# Altium schematic symbol library Microcontrollers.SchLib: 11 symbols
Pins are listed as number, name and electrical type; pins without a type are passive.

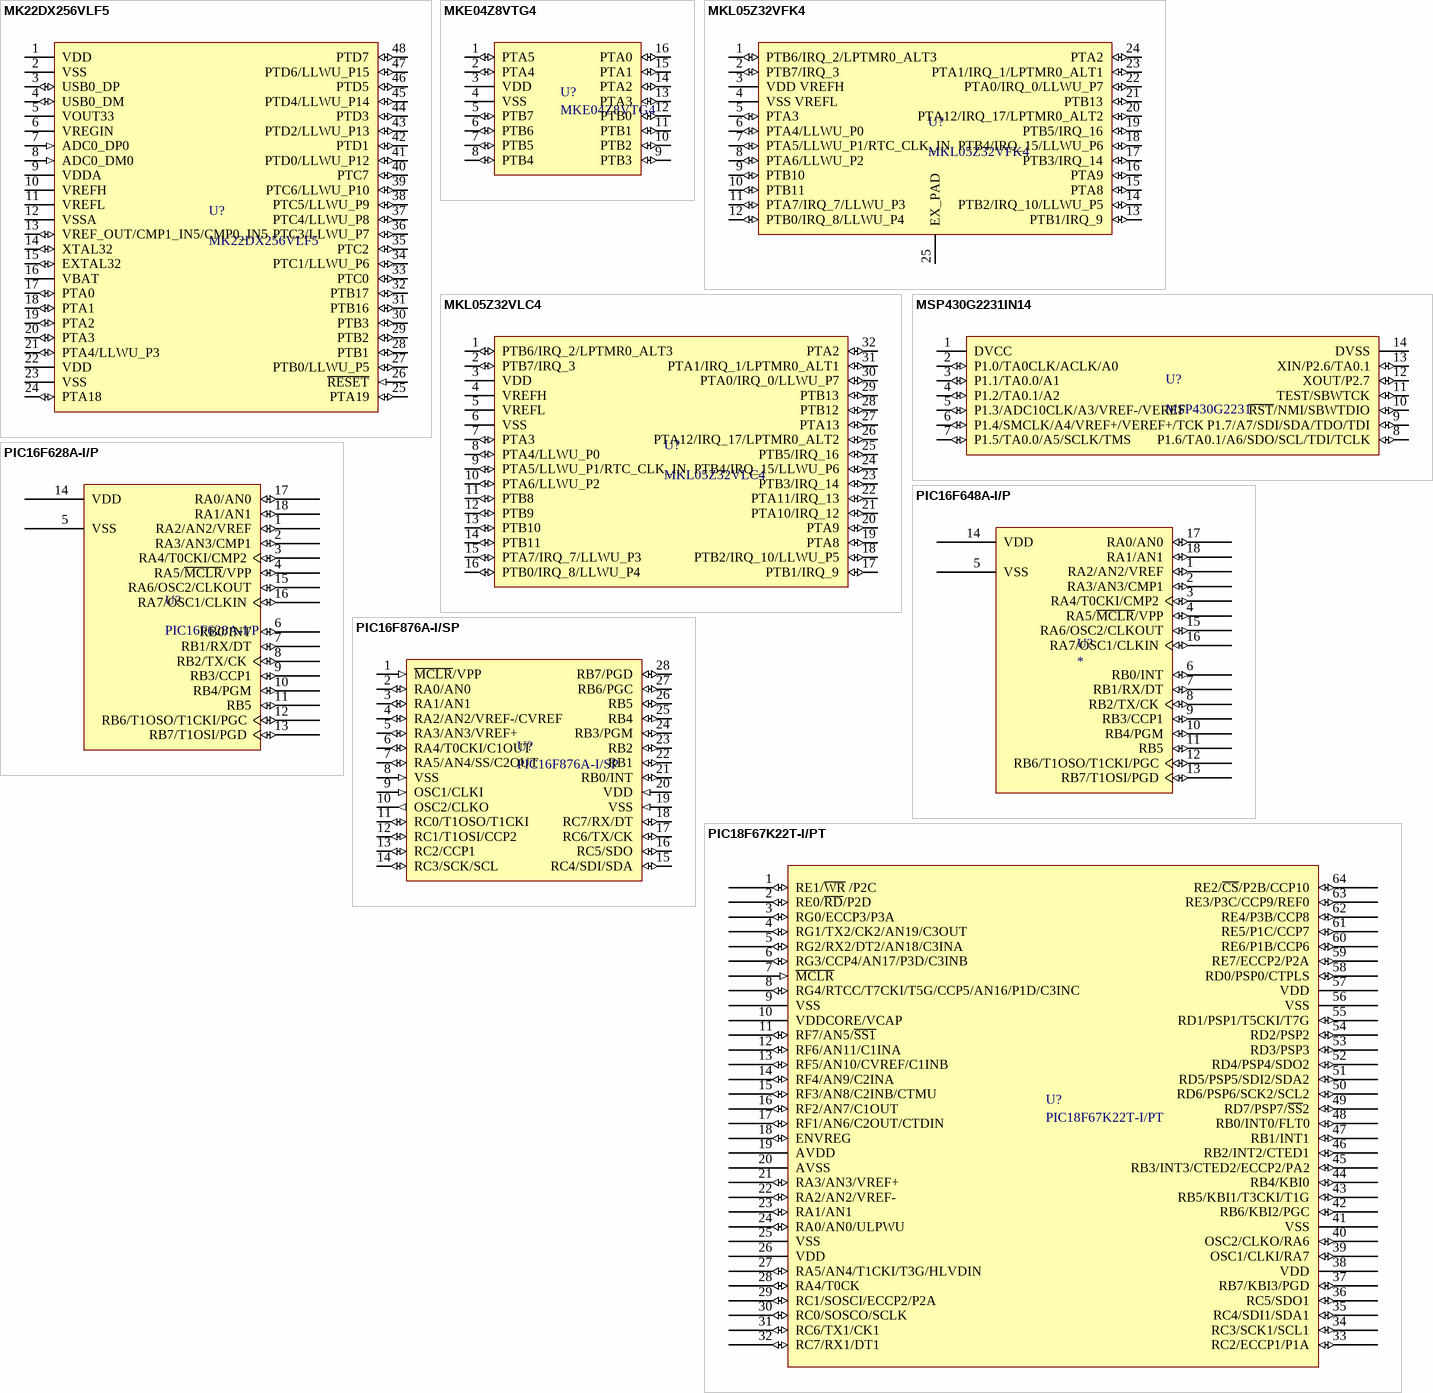
[diagram p0: symbols MK22DX256VLF5 to PIC18F67K22T-I/PT]

## MK22DX256VLF5
designator U?
ARM Microcontrollers - MCU ARM+256Kb +USB; Manufacturer: Freescale Semiconductor; Supplier 1: Mouser; Manufacturer Part Number: MK22DX256VLF5; RoHS: RoHS Compliant; Category: ARM Microcontrollers - MCU; Stock 1: 0; Pricing 1: 1=4.44, 10=4.19, 25=3.95, 100=2.47 (EUR); Packaging: Tray; Series: K22_50; Brand: Freescale Semiconductor; Standard Pack Qty: 250; Tradename: Kinetis; RoHS - Mouser: Y; Minimum Order Quantity: 1; Reeling: False; ComponentLink1URL: http://cache.freescale.com/files/32bit/doc/data_sheet/K22P48M50SF4.pdf; ComponentLink1Description: http://cache.freescale.com/files/32bit/doc/data_sheet/K22P48M50SF4.pdf
footprint LQFP48-7x7x1.4-0.50 (LQFP 48 pins, 7x7x1.4mm body, 0.50 pitch)
pins: 1 VDD (power), 2 VSS (power), 3 USB0_DP (io), 4 USB0_DM (io), 5 VOUT33 (power), 6 VREGIN (power), 7 ADC0_DP0 (in), 8 ADC0_DM0 (in), 9 VDDA (power), 10 VREFH (power), 11 VREFL (power), 12 VSSA (power), 13 VREF_OUT/CMP1_IN5/CMP0_IN5 (io), 14 XTAL32 (io), 15 EXTAL32 (io), 16 VBAT (power), 17 PTA0 (io), 18 PTA1 (io), 19 PTA2 (io), 20 PTA3 (io), 21 PTA4/LLWU_P3 (io), 22 VDD (power), 23 VSS (power), 24 PTA18 (io), 25 PTA19 (io), 26 ~{RESET} (in), 27 PTB0/LLWU_P5 (io), 28 PTB1 (io), 29 PTB2 (io), 30 PTB3 (io), 31 PTB16 (io), 32 PTB17 (io), 33 PTC0 (io), 34 PTC1/LLWU_P6 (io), 35 PTC2 (io), 36 PTC3/LLWU_P7 (io), 37 PTC4/LLWU_P8 (io), 38 PTC5/LLWU_P9 (io), 39 PTC6/LLWU_P10 (io), 40 PTC7 (io), 41 PTD0/LLWU_P12 (io), 42 PTD1 (io), 43 PTD2/LLWU_P13 (io), 44 PTD3 (io), 45 PTD4/LLWU_P14 (io), 46 PTD5 (io), 47 PTD6/LLWU_P15 (io), 48 PTD7 (io)

## MKE04Z8VTG4
designator U?
ARM Microcontrollers - MCU M0 + 8K FLASH 48MHZ; Manufacturer: Freescale Semiconductor; A/D Bit Size: 12 bit; A/D Channels Available: 12; Data RAM Size: 1 kB; Data RAM Type: RAM; Interface Type: I2C, SPI, UART; Number of I/Os: 22 I/O; Program Memory Size: 8 kB; Core: ARM Cortex M0; Data Bus Width: 32 bit; Number of Timers: 5 Timer; On-Chip DAC: Without DAC; Operating Supply Voltage: 2.7 V to 5.5 V; Product Status: New at Mouser; Supplier 1: Mouser; Manufacturer Part Number: MKE04Z8VTG4; RoHS: RoHS Compliant; Category: ARM Microcontrollers - MCU; Stock 1: 384; Pricing 1: 1=0.780, 10=0.743, 25=0.701, 100=0.481 (EUR); Package/Case: TSSOP-16; Program Memory Type: Flash; Brand: Freescale Semiconductor; Mounting Style: SMD/SMT; Maximum Clock Frequency: 48 MHz; Maximum Operating Temperature: + 105 C; Minimum Operating Temperature: - 40 C; Standard Pack Qty: 96; RoHS - Mouser: Y; Minimum Order Quantity: 1; Reeling: False; ComponentLink1URL: http://cache.freescale.com/webapp/sps/site/prod_summary.jsp?code=KE04&tab=Documentation_Tab&Type=Data+Sheets; ComponentLink1Description: http://cache.freescale.com/webapp/sps/site/prod_summary.jsp?code=KE04&tab=Documentation_Tab&Type=Data+Sheets
footprint TSSOP16 (TSSOP 16 Pin)
pins: 1 PTA5 (io), 2 PTA4 (io), 3 VDD (power), 4 VSS (power), 5 PTB7 (io), 6 PTB6 (io), 7 PTB5 (io), 8 PTB4 (io), 9 PTB3 (io), 10 PTB2 (io), 11 PTB1 (io), 12 PTB0 (io), 13 PTA3 (io), 14 PTA2 (io), 15 PTA1 (io), 16 PTA0 (io)

## MKL05Z32VFK4
designator U?
ARM Microcontrollers - MCU Kinetis L ARM M0+ 32k Flash; Manufacturer: Freescale Semiconductor; Data RAM Size: 4 kB; Program Memory Size: 32 kB; Core: ARM Cortex M0; Data Bus Width: 32 bit; Maximum Clock Frequency: 48 MHz; On-Chip ADC: Yes; Operating Supply Voltage: 1.71 V to 3.6 V; Product Status: New at Mouser; Supplier 1: Mouser; Manufacturer Part Number: MKL05Z32VFK4; RoHS: RoHS Compliant; Category: ARM Microcontrollers - MCU; Stock 1: 435; Pricing 1: 1=1.52, 10=1.43, 25=1.35, 100=0.848 (EUR); Package/Case: QFN-24; Packaging: Tray; Series: KL0; Brand: Freescale Semiconductor; Mounting Style: SMD/SMT; Maximum Operating Temperature: + 105 C; Minimum Operating Temperature: - 40 C; Processor Series: Kinetis L; Standard Pack Qty: 490; Tradename: Kinetis; RoHS - Mouser: Y; Minimum Order Quantity: 1; Reeling: False; ComponentLink1URL: http://cache.freescale.com/files/32bit/doc/data_sheet/KL05P48M48SF1.pdf; ComponentLink1Description: http://cache.freescale.com/files/32bit/doc/data_sheet/KL05P48M48SF1.pdf
footprint QFN24-4x4x0.9-0.50 (QFN 24 Pin, 4x4x0.9mm, 0.50 Pitch)
pins: 1 PTB6/IRQ_2/LPTMR0_ALT3 (io), 2 PTB7/IRQ_3 (io), 3 VDD VREFH (power), 4 VSS VREFL (power), 5 PTA3 (io), 6 PTA4/LLWU_P0 (io), 7 PTA5/LLWU_P1/RTC_CLK_IN (io), 8 PTA6/LLWU_P2 (io), 9 PTB10 (io), 10 PTB11 (io), 11 PTA7/IRQ_7/LLWU_P3 (io), 12 PTB0/IRQ_8/LLWU_P4 (io), 13 PTB1/IRQ_9 (io), 14 PTB2/IRQ_10/LLWU_P5 (io), 15 PTA8 (io), 16 PTA9 (io), 17 PTB3/IRQ_14 (io), 18 PTB4/IRQ_15/LLWU_P6 (io), 19 PTB5/IRQ_16 (io), 20 PTA12/IRQ_17/LPTMR0_ALT2 (io), 21 PTB13 (io), 22 PTA0/IRQ_0/LLWU_P7 (io), 23 PTA1/IRQ_1/LPTMR0_ALT1 (io), 24 PTA2 (io), 25 EX_PAD (power)

## MKL05Z32VLC4
designator U?
ARM Microcontrollers - MCU ARM M0+core,32KFlash; Manufacturer: Freescale Semiconductor; Program Memory Type: Flash; Data RAM Size: 4 kB; Data Ram Type: RAM; Interface Type: I2C, LPUART, SPI; Program Memory Size: 32 kB; Core: ARM Cortex M0; Data Bus Width: 32 bit; Maximum Clock Frequency: 48 MHz; Number of Programmable I/Os: 28; Number of Timers: 2; On-Chip DAC: Yes; Operating Supply Voltage: 1.7 V to 3.6 V; Product Status: New Technology; Supplier 1: Mouser; Manufacturer Part Number: MKL05Z32VLC4; RoHS: RoHS Compliant; Category: ARM Microcontrollers - MCU; Stock 1: 1256; Pricing 1: 1=1.59, 10=1.50, 25=1.42, 100=0.888 (EUR); Package/Case: LQFP-32; Packaging: Tray; Series: KL0; Brand: Freescale Semiconductor; Mounting Style: SMD/SMT; Maximum Operating Temperature: + 105 C; Minimum Operating Temperature: - 40 C; Processor Series: ARM; Standard Pack Qty: 250; Tradename: Kinetis; RoHS - Mouser: Y; Minimum Order Quantity: 1; Reeling: False; ComponentLink1URL: http://cache.freescale.com/files/32bit/doc/data_sheet/KL05P48M48SF1.pdf; ComponentLink1Description: http://cache.freescale.com/files/32bit/doc/data_sheet/KL05P48M48SF1.pdf
footprint LQFP32-7x7x1.4-0.8 (LQFP 32 pins, 7x7x1.4mm body, 0.80 pitch)
pins: 1 PTB6/IRQ_2/LPTMR0_ALT3 (io), 2 PTB7/IRQ_3 (io), 3 VDD (power), 4 VREFH (power), 5 VREFL (power), 6 VSS (power), 7 PTA3 (io), 8 PTA4/LLWU_P0 (io), 9 PTA5/LLWU_P1/RTC_CLK_IN (io), 10 PTA6/LLWU_P2 (io), 11 PTB8 (io), 12 PTB9 (io), 13 PTB10 (io), 14 PTB11 (io), 15 PTA7/IRQ_7/LLWU_P3 (io), 16 PTB0/IRQ_8/LLWU_P4 (io), 17 PTB1/IRQ_9 (io), 18 PTB2/IRQ_10/LLWU_P5 (io), 19 PTA8 (io), 20 PTA9 (io), 21 PTA10/IRQ_12 (io), 22 PTA11/IRQ_13 (io), 23 PTB3/IRQ_14 (io), 24 PTB4/IRQ_15/LLWU_P6 (io), 25 PTB5/IRQ_16 (io), 26 PTA12/IRQ_17/LPTMR0_ALT2 (io), 27 PTA13 (io), 28 PTB12 (io), 29 PTB13 (io), 30 PTA0/IRQ_0/LLWU_P7 (io), 31 PTA1/IRQ_1/LPTMR0_ALT1 (io), 32 PTA2 (io)

## MSP430G2231IN14
designator U?, comment MSP430G2231
16-bit Microcontrollers - MCU Ultra low power Microcontroller; Manufacturer: Texas Instruments; Manufacturer Part Number: MSP430G2231IN14; Program Memory Type: Flash; Data RAM Size: 128 B; Data RAM Type: SRAM; Interface Type: I2C, SPI; Program Memory Size: 2 kB; Core: MSP430; Data Bus Width: 16 bit; Maximum Clock Frequency: 16 MHz; Number of Programmable I/Os: 10; Number of Timers: 1; On-Chip ADC: Yes; Operating Supply Voltage: 1.8 V to 3.6 V; Processor Series: 2 Series; Product Status: New Technology; Supplier 1: Mouser; RoHS: RoHS Compliant; Category: 16-bit Microcontrollers - MCU; Stock 1: 105; Pricing 1: 1=2.96, 10=2.36, 100=1.89, 500=1.50, 1000=1.36, 2500=1.25, 5000=1.23, 10000=1.18 (AUD); Package / Case: PDIP-14; Packaging: Tube; Series: MSP430G2231; Brand: Texas Instruments; Mounting Style: Through Hole; Maximum Operating Temperature: + 85 C; Minimum Operating Temperature: - 40 C; Product Category: Microcontrollers - MSP430 Series; Standard Pack Qty: 25; Tradename: MSP430; RoHS - Mouser: Y; Minimum Order Quantity: 1; Reeling: False; ComponentLink1URL: http://www.ti.com/litv/slas694j; ComponentLink1Description: http://www.ti.com/litv/slas694j
footprint PDIP14-300
pins: 1 DVCC (power), 2 P1.0/TA0CLK/ACLK/A0 (io), 3 P1.1/TA0.0/A1 (io), 4 P1.2/TA0.1/A2 (io), 5 P1.3/ADC10CLK/A3/VREF-/VEREF (io), 6 P1.4/SMCLK/A4/VREF+/VEREF+/TCK (io), 7 P1.5/TA0.0/A5/SCLK/TMS (io), 8 P1.6/TA0.1/A6/SDO/SCL/TDI/TCLK (io), 9 P1.7/A7/SDI/SDA/TDO/TDI (io), 10 ~{RST}/NMI/SBWTDIO (io), 11 TEST/SBWTCK (io), 12 XOUT/P2.7 (io), 13 XIN/P2.6/TA0.1 (io), 14 DVSS (power)

## PIC16F628A-I/P
designator U?
8-bit Microcontrollers - MCU 3.5KB 224 RAM 16 I/O; Manufacturer: Microchip Technology; Program Memory Type: Flash; A/D Bit Size: No ADC; Data RAM Size: 224 B; Data ROM Size: 128 B; Interface Type: SCI, USART; Number of I/Os: 16 I/O; Core: PIC; Data Bus Width: 8 bit; Maximum Clock Frequency: 20 MHz; Number of Timers: 3 Timer; On-Chip ADC: No; Operating Supply Voltage: 2 V to 5.5 V; Processor Series: PIC16; Supply Voltage - Max: 5.5 V; Supply Voltage - Min: 3 V; Supplier 1: Mouser; Manufacturer Part Number: PIC16F628A-I/P; RoHS: RoHS Compliant; Category: 8-bit Microcontrollers - MCU; Stock 1: 7871; Pricing 1: 1=2.81, 10=2.34, 25=2.25, 100=2.17 (AUD); Package / Case: PDIP-18; Packaging: Tube; Series: PIC16; Brand: Microchip Technology; Data ROM Type: Flash; Mounting Style: Through Hole; Program Memory Size: 3.5 kB; Maximum Operating Temperature: + 85 C; Minimum Operating Temperature: - 40 C; Product Category: PICmicro MCUs; Standard Pack Qty: 25; RoHS - Mouser: Y; Minimum Order Quantity: 1; Reeling: False; ComponentLink1URL: http://www.mouser.com/ds/2/268/40044b-81137.pdf; ComponentLink1Description: http://www.mouser.com/ds/2/268/40044b-81137.pdf
footprint PDIP18-300
pins: 1 RA2/AN2/VREF (io), 2 RA3/AN3/CMP1 (io), 3 RA4/T0CKI/CMP2 (io), 4 RA5/~{MCLR}/VPP (io), 5 VSS (power), 6 RB0/INT (io), 7 RB1/RX/DT (io), 8 RB2/TX/CK (io), 9 RB3/CCP1 (io), 10 RB4/PGM (io), 11 RB5 (io), 12 RB6/T1OSO/T1CKI/PGC (io), 13 RB7/T1OSI/PGD (io), 14 VDD (power), 15 RA6/OSC2/CLKOUT (io), 16 RA7/OSC1/CLKIN (io), 17 RA0/AN0 (io), 18 RA1/AN1 (io)

## PIC16F648A-I/P
designator U?
8-bit Microcontrollers - MCU 7KB 256 RAM 16 I/O; Manufacturer: Microchip Technology; Manufacturer Part Number: PIC16F648A-I/P; Program Memory Type: Flash; Data RAM Size: 256 B; Interface Type: SCI, USART; Program Memory Size: 4 KB; Core: PIC; Data Bus Width: 8 bit; Maximum Clock Frequency: 20 MHz; Number of Programmable I/Os: 16; Number of Timers: 3; On-Chip ADC: No; Operating Supply Voltage: 2 V to 5.5 V; Processor Series: PIC16; Supply Voltage - Max: 5.5 V; Supply Voltage - Min: 3 V; Supplier 1: Mouser; RoHS: RoHS Compliant; Category: 8-bit Microcontrollers - MCU; Stock 1: 3117; Pricing 1: 1=1.89, 10=1.58, 25=1.52, 100=1.46 (EUR); Package/Case: PDIP-18; Packaging: Tube; Series: PIC16; Data ROM Size: 256 B; Mounting Style: Through Hole; Maximum Operating Temperature: + 85 C; Minimum Operating Temperature: - 40 C; Product Category: PICmicro MCUs; Standard Pack Qty: 25; RoHS - Mouser: Y; Minimum Order Quantity: 1; Reeling: False; ComponentLink1URL: http://ww1.microchip.com/downloads/en/DeviceDoc/40044b.pdf; ComponentLink1Description: http://ww1.microchip.com/downloads/en/DeviceDoc/40044b.pdf; Supplier Part Number 1: 579-PIC16F648A-I/P
footprint PDIP18-300
pins: 1 RA2/AN2/VREF (io), 2 RA3/AN3/CMP1 (io), 3 RA4/T0CKI/CMP2 (io), 4 RA5/~{MCLR}/VPP (io), 5 VSS (power), 6 RB0/INT (io), 7 RB1/RX/DT (io), 8 RB2/TX/CK (io), 9 RB3/CCP1 (io), 10 RB4/PGM (io), 11 RB5 (io), 12 RB6/T1OSO/T1CKI/PGC (io), 13 RB7/T1OSI/PGD (io), 14 VDD (power), 15 RA6/OSC2/CLKOUT (io), 16 RA7/OSC1/CLKIN (io), 17 RA0/AN0 (io), 18 RA1/AN1 (io)

## PIC16F876A-I/SP
designator U?
8-bit Microcontrollers - MCU 14KB 368 RAM 22 I/O; Manufacturer: Microchip Technology; Program Memory Type: Flash; A/D Bit Size: 10 bit; A/D Channels Available: 5; Data RAM Size: 368 B; Data ROM Size: 256 B; Interface Type: I2C, SPI, USART; Core: PIC; Data Bus Width: 8 bit; Maximum Clock Frequency: 20 MHz; Number of Programmable I/Os: 22; Number of Timers: 3; On-Chip ADC: Yes; Operating Supply Voltage: 2 V to 5.5 V; Processor Series: PIC16; Supply Voltage - Max: 5.5 V; Supply Voltage - Min: 4 V; Supplier 1: Mouser; Manufacturer Part Number: PIC16F876A-I/SP; RoHS: RoHS Compliant; Category: 8-bit Microcontrollers - MCU; Stock 1: 141; Pricing 1: 1=4.35, 10=3.62, 25=3.53, 100=3.43 (EUR); Package/Case: SPDIP-28; Packaging: Tube; Series: PIC16; Brand: Microchip Technology; Data Ram Type: RAM; Data Rom Type: Flash; Mounting Style: Through Hole; Program Memory Size: 14 kB; Maximum Operating Temperature: + 85 C; Minimum Operating Temperature: - 40 C; Product Category: PICmicro MCUs; Standard Pack Qty: 15; RoHS - Mouser: Y; Minimum Order Quantity: 1; Reeling: False; ComponentLink1URL: http://www.mouser.com/ds/2/268/39582b-82117.pdf; ComponentLink1Description: http://www.mouser.com/ds/2/268/39582b-82117.pdf
footprint PDIP28-300
pins: 1 ~{MCLR}/VPP (in), 2 RA0/AN0 (io), 3 RA1/AN1 (io), 4 RA2/AN2/VREF-/CVREF (io), 5 RA3/AN3/VREF+ (io), 6 RA4/T0CKI/C1OUT (io), 7 RA5/AN4/SS/C2OUT (io), 8 VSS (in), 9 OSC1/CLKI (in), 10 OSC2/CLKO (out), 11 RC0/T1OSO/T1CKI (io), 12 RC1/T1OSI/CCP2 (io), 13 RC2/CCP1 (io), 14 RC3/SCK/SCL (io), 15 RC4/SDI/SDA (io), 16 RC5/SDO (io), 17 RC6/TX/CK (io), 18 RC7/RX/DT (io), 19 VSS (in), 20 VDD (in), 21 RB0/INT (io), 22 RB1 (io), 23 RB2 (io), 24 RB3/PGM (io), 25 RB4 (io), 26 RB5 (io), 27 RB6/PGC (io), 28 RB7/PGD (io)

## PIC18F67K22T-I/PT
designator U?
8-bit Microcontrollers - MCU 128kB Flash 4kB RAM; Manufacturer: Microchip Technology; A/D Bit Size: 12 bit; A/D Channels Available: 16; Data RAM Size: 3 kB; Data RAM Type: SRAM; Interface Type: I2C, SPI; Number of I/Os: 53 I/O; Core: PIC; Data Bus Width: 8 bit; Maximum Clock Frequency: 64 MHz; Number of Timers: 11 Timer; On-Chip ADC: Yes; Operating Supply Voltage: 1.8 V to 5.5 V; Processor Series: PIC18; Supplier 1: Mouser; Manufacturer Part Number: PIC18F67K22T-I/PT; RoHS: RoHS Compliant; Category: 8-bit Microcontrollers - MCU; Stock 1: 0; Pricing 1: 925=4.59, 1200=4.59 (AUD); Packaging: Reel; Program Memory Type: Flash; Series: PIC18; Brand: Microchip Technology; Program Memory Size: 128 kB; Maximum Operating Temperature: + 125 C; Minimum Operating Temperature: - 40 C; Product Category: PICmicro MCUs; Standard Pack Qty: 1200; RoHS - Mouser: Y; Minimum Order Quantity: 925; Reeling: True; ComponentLink1URL: http://www.microchip.com/wwwproducts/Devices.aspx?dDocName=en547580; ComponentLink1Description: http://www.microchip.com/wwwproducts/Devices.aspx?dDocName=en547580
footprint TQFP64-10x10-0.50 (TQFP 64 pins, 10x10mm body, 0.50 pitch)
pins: 1 RE1/~{WR} /P2C (io), 2 RE0/~{RD}/P2D (io), 3 RG0/ECCP3/P3A (io), 4 RG1/TX2/CK2/AN19/C3OUT (io), 5 RG2/RX2/DT2/AN18/C3INA (io), 6 RG3/CCP4/AN17/P3D/C3INB (io), 7 ~{MCLR} (in), 8 RG4/RTCC/T7CKI/T5G/CCP5/AN16/P1D/C3INC (io), 9 VSS (power), 10 VDDCORE/VCAP (power), 11 RF7/AN5/~{SS1} (io), 12 RF6/AN11/C1INA (io), 13 RF5/AN10/CVREF/C1INB (io), 14 RF4/AN9/C2INA (io), 15 RF3/AN8/C2INB/CTMU (io), 16 RF2/AN7/C1OUT (io), 17 RF1/AN6/C2OUT/CTDIN (io), 18 ENVREG (io), 19 AVDD (power), 20 AVSS (power), 21 RA3/AN3/VREF+ (io), 22 RA2/AN2/VREF- (io), 23 RA1/AN1 (io), 24 RA0/AN0/ULPWU (io), 25 VSS (power), 26 VDD (power), 27 RA5/AN4/T1CKI/T3G/HLVDIN (io), 28 RA4/T0CK (io), 29 RC1/SOSCI/ECCP2/P2A (io), 30 RC0/SOSCO/SCLK (io), 31 RC6/TX1/CK1 (io), 32 RC7/RX1/DT1 (io), 33 RC2/ECCP1/P1A (io), 34 RC3/SCK1/SCL1 (io), 35 RC4/SDI1/SDA1 (io), 36 RC5/SDO1 (io), 37 RB7/KBI3/PGD (io), 38 VDD (power), 39 OSC1/CLKI/RA7 (io), 40 OSC2/CLKO/RA6 (io), 41 VSS (power), 42 RB6/KBI2/PGC (io), 43 RB5/KBI1/T3CKI/T1G (io), 44 RB4/KBI0 (io), 45 RB3/INT3/CTED2/ECCP2/PA2 (io), 46 RB2/INT2/CTED1 (io), 47 RB1/INT1 (io), 48 RB0/INT0/FLT0 (io), 49 RD7/PSP7/~{SS}2 (io), 50 RD6/PSP6/SCK2/SCL2 (io), 51 RD5/PSP5/SDI2/SDA2 (io), 52 RD4/PSP4/SDO2 (io), 53 RD3/PSP3 (io), 54 RD2/PSP2 (io), 55 RD1/PSP1/T5CKI/T7G (io), 56 VSS (power), 57 VDD (power), 58 RD0/PSP0/CTPLS (io), 59 RE7/ECCP2/P2A (io), 60 RE6/P1B/CCP6 (io), 61 RE5/P1C/CCP7 (io), 62 RE4/P3B/CCP8 (io), 63 RE3/P3C/CCP9/REF0 (io), 64 RE2/~{CS}/P2B/CCP10 (io)

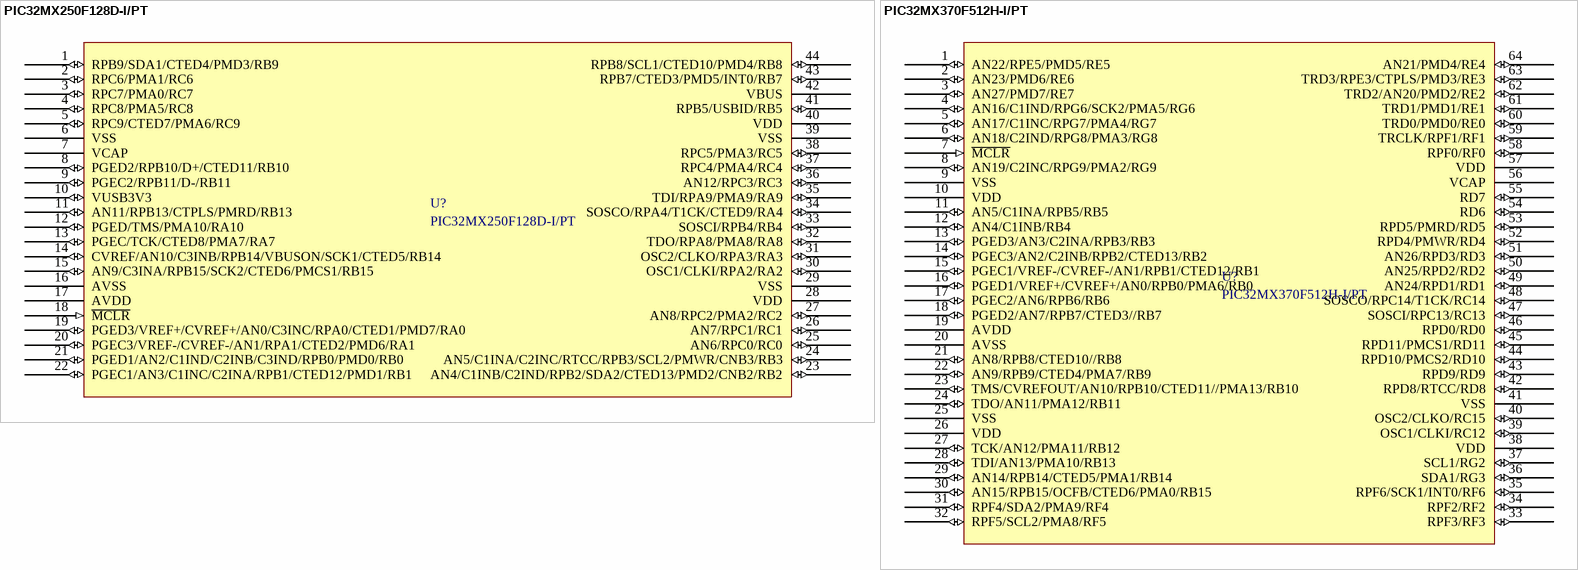
[diagram p1: symbols PIC32MX250F128D-I/PT to PIC32MX370F512H-I/PT]

## PIC32MX250F128D-I/PT
designator U?
Manufacturer: Microchip Technology; Data RAM Size: 32 KB; Program Memory Size: 128 KB; Core: MIPS32 M4K; Data Bus Width: 32 bit; Maximum Clock Frequency: 40 MHz; On-Chip ADC: Yes; Operating Supply Voltage: 2.3 V to 3.6 V; Supplier 1: Mouser; Manufacturer Part Number: PIC32MX250F128D-I/PT; RoHS: RoHS Compliant; Category: 32-bit Microcontrollers - MCU; Stock 1: 575; Pricing 1: 1=3.70, 10=3.08, 25=2.82, 100=2.56 (EUR); Package/Case: TQFP-44; Packaging: Tray; Mounting Style: SMD/SMT; Maximum Operating Temperature: + 85 C; Minimum Operating Temperature: - 40 C; Processor Series: PIC32MX; RoHS - Mouser: Y; Minimum Order Quantity: 1; Reeling: False; ComponentLink1URL: http://www.mouser.com/ds/2/268/61168C-78779.pdf; ComponentLink1Description: http://www.mouser.com/ds/2/268/61168C-78779.pdf; Supplier Part Number 1: 579-32MX250F128DIPT
footprint TQFP44-10x10-0.8 (TQFP 44 pins, 10x10mm body, 0.80 pitch)
pins: 1 RPB9/SDA1/CTED4/PMD3/RB9 (io), 2 RPC6/PMA1/RC6 (io), 3 RPC7/PMA0/RC7 (io), 4 RPC8/PMA5/RC8 (io), 5 RPC9/CTED7/PMA6/RC9 (io), 6 VSS (power), 7 VCAP (power), 8 PGED2/RPB10/D+/CTED11/RB10 (io), 9 PGEC2/RPB11/D-/RB11 (io), 10 VUSB3V3 (io), 11 AN11/RPB13/CTPLS/PMRD/RB13 (io), 12 PGED/TMS/PMA10/RA10 (io), 13 PGEC/TCK/CTED8/PMA7/RA7 (io), 14 CVREF/AN10/C3INB/RPB14/VBUSON/SCK1/CTED5/RB14 (io), 15 AN9/C3INA/RPB15/SCK2/CTED6/PMCS1/RB15 (io), 16 AVSS (power), 17 AVDD (power), 18 ~{MCLR} (in), 19 PGED3/VREF+/CVREF+/AN0/C3INC/RPA0/CTED1/PMD7/RA0 (io), 20 PGEC3/VREF-/CVREF-/AN1/RPA1/CTED2/PMD6/RA1 (io), 21 PGED1/AN2/C1IND/C2INB/C3IND/RPB0/PMD0/RB0 (io), 22 PGEC1/AN3/C1INC/C2INA/RPB1/CTED12/PMD1/RB1 (io), 23 AN4/C1INB/C2IND/RPB2/SDA2/CTED13/PMD2/CNB2/RB2 (io), 24 AN5/C1INA/C2INC/RTCC/RPB3/SCL2/PMWR/CNB3/RB3 (io), 25 AN6/RPC0/RC0 (io), 26 AN7/RPC1/RC1 (io), 27 AN8/RPC2/PMA2/RC2 (io), 28 VDD (power), 29 VSS (power), 30 OSC1/CLKI/RPA2/RA2 (io), 31 OSC2/CLKO/RPA3/RA3 (io), 32 TDO/RPA8/PMA8/RA8 (io), 33 SOSCI/RPB4/RB4 (io), 34 SOSCO/RPA4/T1CK/CTED9/RA4 (io), 35 TDI/RPA9/PMA9/RA9 (io), 36 AN12/RPC3/RC3 (io), 37 RPC4/PMA4/RC4 (io), 38 RPC5/PMA3/RC5 (io), 39 VSS (power), 40 VDD (power), 41 RPB5/USBID/RB5 (io), 42 VBUS (power), 43 RPB7/CTED3/PMD5/INT0/RB7 (io), 44 RPB8/SCL1/CTED10/PMD4/RB8 (io)

## PIC32MX370F512H-I/PT
designator U?
32-bit Microcontrollers - MCU 100MHz 2anlg cmp 2I2C 2SPI/I2S 28Ch; Manufacturer: Microchip Technology; Program Memory Type: Flash; A/D Bit Size: 10 bit; A/D Channels Available: 28; Data RAM Size: 128 kB; Data Ram Type: SRAM; Interface Type: I2C, SPI, UART; Program Memory Size: 512 kB; Core: MIPS32 M4K; Data Bus Width: 32 bit; Number of Timers: 7; On-Chip ADC: Yes; On-Chip DAC: No; Operating Supply Voltage: 2.3 V to 3.6 V; Product Status: New Product; Supplier 1: Mouser; Manufacturer Part Number: PIC32MX370F512H-I/PT; RoHS: RoHS Compliant; Category: 32-bit Microcontrollers - MCU; Stock 1: 0; Pricing 1: 1=5.72, 10=4.77, 25=4.37, 100=3.95 (EUR); Package/Case: TQFP-64; Packaging: Tray; Brand: Microchip Technology; Mounting Style: SMD/SMT; Maximum Clock Frequency: 100 MHz; Maximum Operating Temperature: + 85 C; Minimum Operating Temperature: - 40 C; Processor Series: PIC32MX; Standard Pack Qty: 160; RoHS - Mouser: Y; Minimum Order Quantity: 1; Reeling: False; ComponentLink1URL: http://www.mouser.com/ds/2/268/60001185C-270900.pdf; ComponentLink1Description: http://www.mouser.com/ds/2/268/60001185C-270900.pdf
footprint TQFP64-10x10-0.50 (TQFP 64 pins, 10x10mm body, 0.50 pitch)
pins: 1 AN22/RPE5/PMD5/RE5 (io), 2 AN23/PMD6/RE6 (io), 3 AN27/PMD7/RE7 (io), 4 AN16/C1IND/RPG6/SCK2/PMA5/RG6 (io), 5 AN17/C1INC/RPG7/PMA4/RG7 (io), 6 AN18/C2IND/RPG8/PMA3/RG8 (io), 7 ~{MCLR} (in), 8 AN19/C2INC/RPG9/PMA2/RG9 (io), 9 VSS (power), 10 VDD (power), 11 AN5/C1INA/RPB5/RB5 (io), 12 AN4/C1INB/RB4 (io), 13 PGED3/AN3/C2INA/RPB3/RB3 (io), 14 PGEC3/AN2/C2INB/RPB2/CTED13/RB2 (io), 15 PGEC1/VREF-/CVREF-/AN1/RPB1/CTED12/RB1 (io), 16 PGED1/VREF+/CVREF+/AN0/RPB0/PMA6/RB0 (io), 17 PGEC2/AN6/RPB6/RB6 (io), 18 PGED2/AN7/RPB7/CTED3//RB7 (io), 19 AVDD (power), 20 AVSS (power), 21 AN8/RPB8/CTED10//RB8 (io), 22 AN9/RPB9/CTED4/PMA7/RB9 (io), 23 TMS/CVREFOUT/AN10/RPB10/CTED11//PMA13/RB10 (io), 24 TDO/AN11/PMA12/RB11 (io), 25 VSS (power), 26 VDD (power), 27 TCK/AN12/PMA11/RB12 (io), 28 TDI/AN13/PMA10/RB13 (io), 29 AN14/RPB14/CTED5/PMA1/RB14 (io), 30 AN15/RPB15/OCFB/CTED6/PMA0/RB15 (io), 31 RPF4/SDA2/PMA9/RF4 (io), 32 RPF5/SCL2/PMA8/RF5 (io), 33 RPF3/RF3 (io), 34 RPF2/RF2 (io), 35 RPF6/SCK1/INT0/RF6 (io), 36 SDA1/RG3 (io), 37 SCL1/RG2 (io), 38 VDD (power), 39 OSC1/CLKI/RC12 (io), 40 OSC2/CLKO/RC15 (io), 41 VSS (power), 42 RPD8/RTCC/RD8 (io), 43 RPD9/RD9 (io), 44 RPD10/PMCS2/RD10 (io), 45 RPD11/PMCS1/RD11 (io), 46 RPD0/RD0 (io), 47 SOSCI/RPC13/RC13 (io), 48 SOSCO/RPC14/T1CK/RC14 (io), 49 AN24/RPD1/RD1 (io), 50 AN25/RPD2/RD2 (io), 51 AN26/RPD3/RD3 (io), 52 RPD4/PMWR/RD4 (io), 53 RPD5/PMRD/RD5 (io), 54 RD6 (io), 55 RD7 (io), 56 VCAP (power), 57 VDD (power), 58 RPF0/RF0 (io), 59 TRCLK/RPF1/RF1 (io), 60 TRD0/PMD0/RE0 (io), 61 TRD1/PMD1/RE1 (io), 62 TRD2/AN20/PMD2/RE2 (io), 63 TRD3/RPE3/CTPLS/PMD3/RE3 (io), 64 AN21/PMD4/RE4 (io)